# Altium schematic symbol library Z566M.SchLib: 1 symbol
Pins are listed as number, name and electrical type; pins without a type are passive.

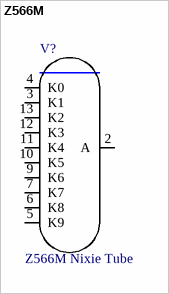
[diagram p0: symbol Z566M]

## Z566M
designator V?, comment Z566M Nixie Tube
footprint Z566M (Z566M Nixie Tube)
pins: 2 A (power) "Anode", 3 K1 "Kathode of digit 1", 4 K0 "Kathode of digit 1", 5 K9 "Kathode of digit 1", 6 K8 "Kathode of digit 1", 7 K7 "Kathode of digit 1", 9 K6 "Kathode of digit 1", 10 K5 "Kathode of digit 1", 11 K4 "Kathode of digit 1", 12 K3 "Kathode of digit 1", 13 K2 "Kathode of digit 1"